# EAGLE library part 74HC373N,652 (library NXP_By_element14_Batch_1)
Octal D-type transparent latch 3-state
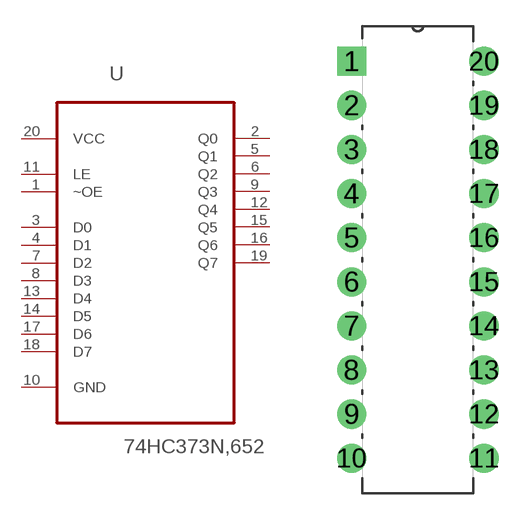
[diagram p76: symbol with the pads of DIP254P762X420-20; footprint DIP254P762X420-20]

Designator prefix U

## 74HC373N,652 (MPN: 74HC373N,652; OC_FARNELL: 1826791; OC_NEWARK: 71R2392; P1I: o; PACKAGE: DIP-20; SUPPLIER: NXP)  [DIP254P762X420-20]
1  ~OE  in
2  Q0  out
3  D0  in
4  D1  in
5  Q1  out
6  Q2  out
7  D2  in
8  D3  in
9  Q3  out
10  GND  pas
11  LE  in
12  Q4  out
13  D4  in
14  D5  in
15  Q5  out
16  Q6  out
17  D6  in
18  D7  in
19  Q7  out
20  VCC  pwr

## Footprint DIP254P762X420-20 (pad centres in mm)
drill 1.118 square: 1 -7.62,22.86
drill 1.118: 2 -7.62,20.32; 3 -7.62,17.78; 4 -7.62,15.24; 5 -7.62,12.7; 6 -7.62,10.16; 7 -7.62,7.62; 8 -7.62,5.08; 9 -7.62,2.54; 10 -7.62,0; 11 0,0; 12 0,2.54; 13 0,5.08; 14 0,7.62; 15 0,10.16; 16 0,12.7; 17 0,15.24; 18 0,17.78; 19 0,20.32; 20 0,22.86